# Altium schematic symbol library cb_v2.SCHLIB: 18 symbols
Pins are listed as number, name and electrical type; pins without a type are passive.

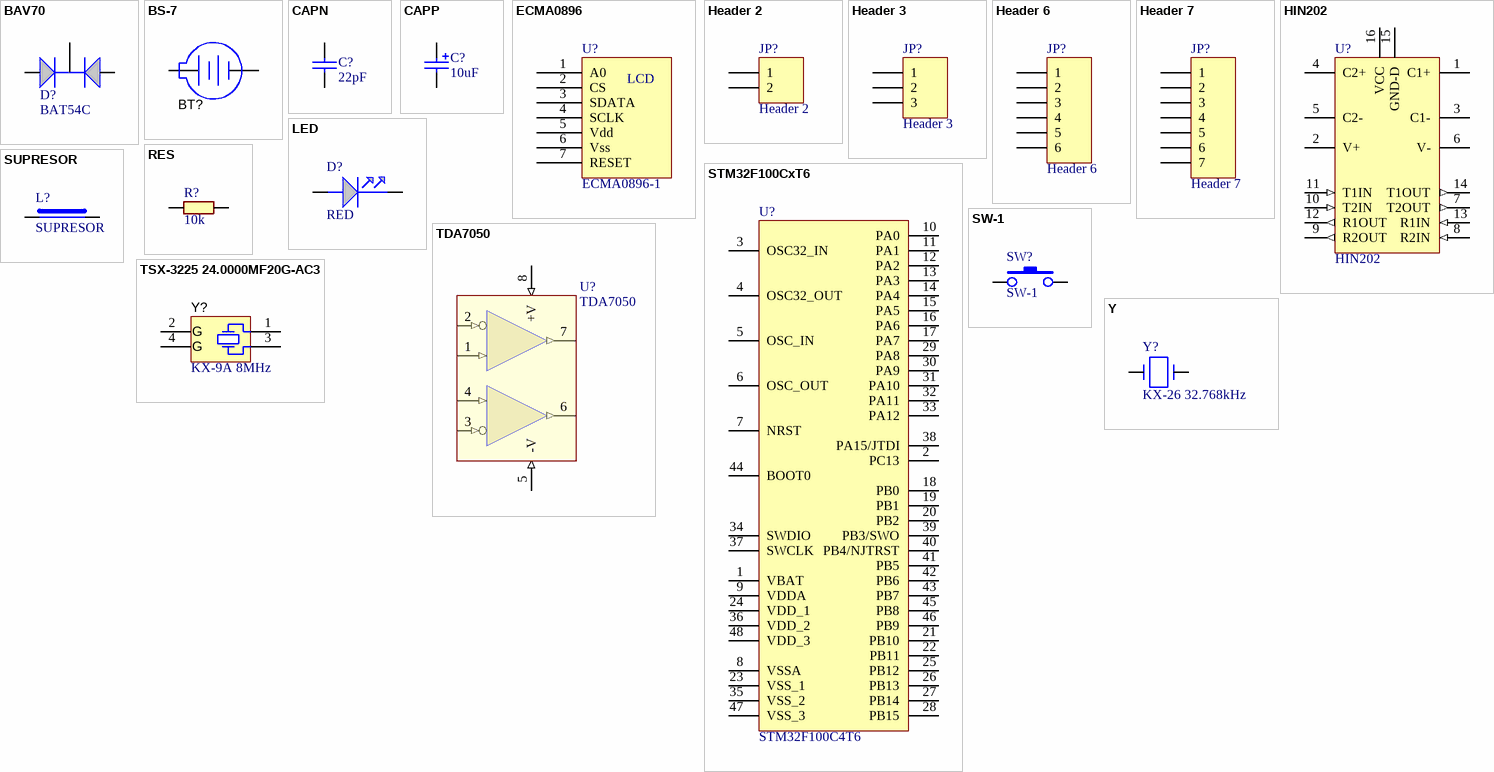
[diagram p0: symbols BAV70 to Y]

## BAV70
designator D?, comment BAT54C
footprint SOT-23
footprint SOT-323
pins: 1, 2, 3

## BS-7
designator BT?  (value not drawn)
Battery Holder, CR2032, Retainer clip, TH; Manufacturer: Memory Protection Devices; SymbolCreator: a0412235; SymbolVersion: 2013-01-08; CompType: Battery Holder; PartNumber: BS-7; RoHS: Y; PackageReference: CR2032 holder; MountType: TH; ComponentLink1Description: Datasheet Link; ComponentLink1URL: http://www.memoryprotectiondevices.com/datasheets/BS-7-datasheet.pdf; Publisher: Texas Instruments; LatestRevisionDate: 2014-08-06; Supplier 1: Digi-Key; Supplier Part Number 1: BS-7-ND
footprint BAT_BS-7
pins: 1 +, 2 -

## CAPN
designator C?, comment 22pF
Part Field 1: Hitano; Part Field 7: 10%; Part Field 8: 50V; Part Field 9: X7R
footprint C-0603
footprint C-0805
footprint C-1206
pins: 1, 2

## CAPP
designator C?, comment 10uF
Part Field 1: *; Part Field 7: *; Part Field 8: *; Part Field 9: *
footprint 3216
footprint 3518
footprint 3527
footprint TANTAL-A
pins: 1, 2

## ECMA0896
designator U?, comment ECMA0896-1
footprint ECMA0896
pins: 1 A0, 2 CS, 3 SDATA, 4 SCLK, 5 Vdd, 6 Vss, 7 RESET
text: LCD

## Header 2
designator JP?
Header, 2-Pin; LatestRevisionDate: 17-Jul-2002; LatestRevisionNote: Re-released for DXP Platform.; Publisher: Altium Limited
footprint HDR1X2 (Connector; Header; 2 Position)
signal-integrity model Connector
pins: 1, 2

## Header 3
designator JP?
Header, 3-Pin; LatestRevisionDate: 17-Jul-2002; LatestRevisionNote: Re-released for DXP Platform.; Publisher: Altium Limited
footprint HDR1X3 (Connector; Header; 3 Position)
signal-integrity model Connector
pins: 1, 2, 3

## Header 6
designator JP?
Header, 6-Pin; LatestRevisionDate: 17-Jul-2002; LatestRevisionNote: Re-released for DXP Platform.; Publisher: Altium Limited
footprint HDR1X6 (Connector; Header; 6 Position)
signal-integrity model Connector
pins: 1, 2, 3, 4, 5, 6

## Header 7
designator JP?
Header, 7-Pin; LatestRevisionDate: 17-Jul-2002; LatestRevisionNote: Re-released for DXP Platform.; Publisher: Altium Limited
footprint HDR1X7 (Connector; Header; 7 Position)
signal-integrity model Connector
pins: 1, 2, 3, 4, 5, 6, 7

## HIN202
designator U?
RS232 driver; Производитель: *; Допустимая замена: *; Цена: *; PDF файл: *; Температурный диапазон: *
footprint SO16-(SOT-109-1)
footprint SO16-(SOT-162-1)
footprint SO16-(SOT-109-1)
footprint SSOP16
footprint SSOP16NW
pins: 1 C1+, 2 V+, 3 C1-, 4 C2+, 5 C2-, 6 V-, 7 T2OUT (out), 8 R2IN (in), 9 R2OUT (out), 10 T2IN (in), 11 T1IN (in), 12 R1OUT (out), 13 R1IN (in), 14 T1OUT (out), 15 GND-D (power) hidden to GND-D, 16 VCC (power) hidden to VCC

## LED
designator D?, comment RED
footprint LED-0805
footprint LED-DIP-1
footprint LED-PLANE
pins: A ANODE, K CATHODE

## RES
designator R?, comment 10k
Part Field 1: UniOhm; Part Field 7: 5%
footprint R-0603
footprint R-0805
footprint R-1206
pins: 1, 2

## STM32F100CxT6
designator U?, comment STM32F100C4T6
footprint TSQFP50P900X900X160-48N (TSQFP, 48-Leads, Body 7,00x7,00mm, Pitch 0,50mm, IPC Medium Density)
pins: 1 VBAT, 2 PC13, 3 OSC32_IN, 4 OSC32_OUT, 5 OSC_IN, 6 OSC_OUT, 7 NRST, 8 VSSA, 9 VDDA, 10 PA0, 11 PA1, 12 PA2, 13 PA3, 14 PA4, 15 PA5, 16 PA6, 17 PA7, 18 PB0, 19 PB1, 20 PB2, 21 PB10, 22 PB11, 23 VSS_1, 24 VDD_1, 25 PB12, 26 PB13, 27 PB14, 28 PB15, 29 PA8, 30 PA9, 31 PA10, 32 PA11, 33 PA12, 34 SWDIO, 35 VSS_2, 36 VDD_2, 37 SWCLK, 38 PA15/JTDI, 39 PB3/SWO, 40 PB4/NJTRST, 41 PB5, 42 PB6, 43 PB7, 44 BOOT0, 45 PB8, 46 PB9, 47 VSS_3, 48 VDD_3

## SUPRESOR
designator L?
Примечание: *; Производитель: *
footprint L-1210
footprint LEADED
footprint R-1206
pins: 1, 2

## SW-1
designator SW?
Производитель: *; Допустимая замена: *; Цена: *; PDF файл: *; Температурный диапазон: *; Описание пользователя: *; *: *
footprint SW4-2
footprint SW2mini
pins: 1, 2

## TDA7050
designator U?
footprint SO8-(SOT-96-1)
pins: 1 IN1+ (in), 2 IN1- (in), 3 IN2- (in), 4 IN2+ (in), 5 -V (in), 6 OUT2 (out), 7 OUT1 (out), 8 +V (in)

## TSX-3225 24.0000MF20G-AC3
designator Y?, comment KX-9A 8MHz
Crystal, 24 MHz, 9 pF, SMD; PartNumber: TSX-3225 24.0000MF20G-AC3; Manufacturer: Epson; SymbolCreator: a0412235; U/M: EA; TaMin_C: -40; TaMax_C: 85; Frequency Stability: ±20ppm; SymbolVersion: 2011-08-23; Frequency: 8 MHz; CompType: Crystal; PackageReference: SMD, 4-Leads, Body 2.65x3.35mm, Height 0.6mm; MountType: SMT; RoHS: Y; ComponentLink1Description: Datasheet Link; ComponentLink1URL: http://www.eea.epson.com/portal/pls/portal/docs/1/1729491.PDF; Publisher: Texas Instruments; LatestRevisionDate: 2014-08-15; Supplier 1: Digi-Key; Supplier Part Number 1: SER3634CT-ND; Supplier 2: Mouser; Supplier Part Number 2: 732-TX325-24F20G-AC3
footprint EPSON_TSX-3225
footprint KX-9A
pins: 1, 2 GND (power), 3, 4 GND (power)
text: G

## Y
designator Y?, comment KX-26 32.768kHz
Производитель: *; CrossRef: *; Цена: *; PDF: *; T-range: *
footprint ATS-25(49-51)
footprint XTAL-SMD
footprint Epson_FC-12M (Epson)
footprint KX-26
footprint KX-327
pins: 1, 2